# EAGLE library part 1-Q-EC (library robot-hand)
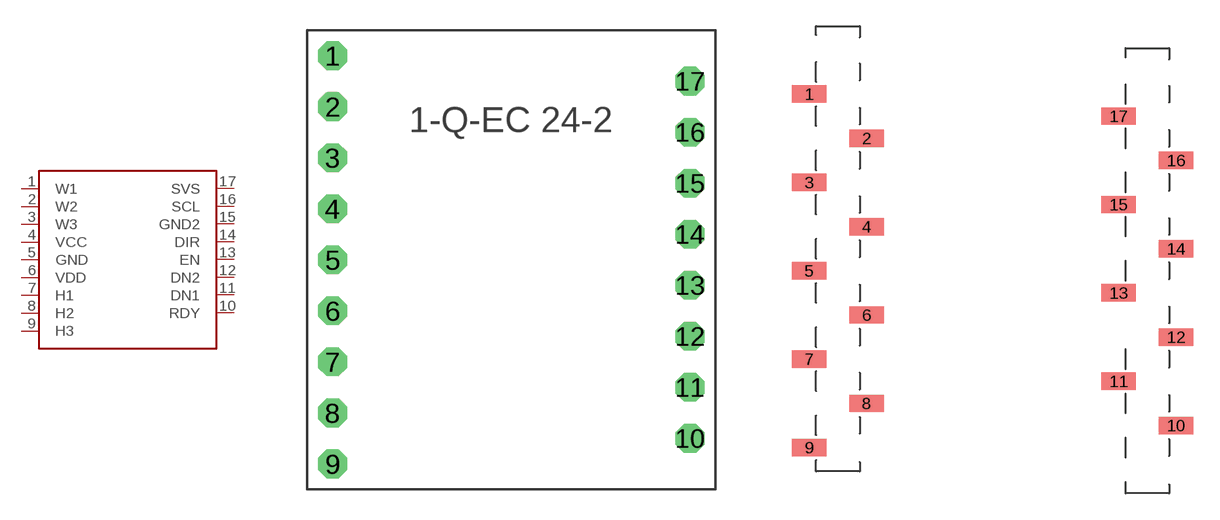
[diagram p11: symbol with the pads of 1-Q-EC; footprints 1-Q-EC, 1-Q-EC-SMD]

Designator prefix -

## 1-Q-EC  [1-Q-EC]
1  W1
2  W2
3  W3
4  VCC
5  GND
6  VDD
7  H1
8  H2
9  H3
10  RDY
11  DN1
12  DN2
13  EN
14  DIR
15  GND2
16  SCL
17  SVS

## 1-Q-EC1-Q-EC-SMD  [1-Q-EC-SMD]
Pads as for 1-Q-EC

## Footprint 1-Q-EC (pad centres in mm)
drill 0.8 pad 1.422 octagon: 1 -8.89,10.16; 2 -8.89,7.62; 3 -8.89,5.08; 4 -8.89,2.54; 5 -8.89,0; 6 -8.89,-2.54; 7 -8.89,-5.08; 8 -8.89,-7.62; 9 -8.89,-10.16; 10 8.89,-8.89; 11 8.89,-6.35; 12 8.89,-3.81; 13 8.89,-1.27; 14 8.89,1.27; 15 8.89,3.81; 16 8.89,6.35; 17 8.89,8.89

## Footprint 1-Q-EC-SMD (pad centres in mm)
smd 2 x 1: 1 -10.54,7.62; 2 -7.24,5.08; 3 -10.54,2.54; 4 -7.24,0; 5 -10.54,-2.54; 6 -7.24,-5.08; 7 -10.54,-7.62; 8 -7.24,-10.16; 9 -10.54,-12.7; 10 10.54,-11.43; 11 7.24,-8.89; 12 10.54,-6.35; 13 7.24,-3.81; 14 10.54,-1.27; 15 7.24,1.27; 16 10.54,3.81; 17 7.24,6.35